# Altium schematic symbol library NOS_EEG_V2_1.SCHLIB: 12 symbols
Pins are listed as number, name and electrical type; pins without a type are passive.

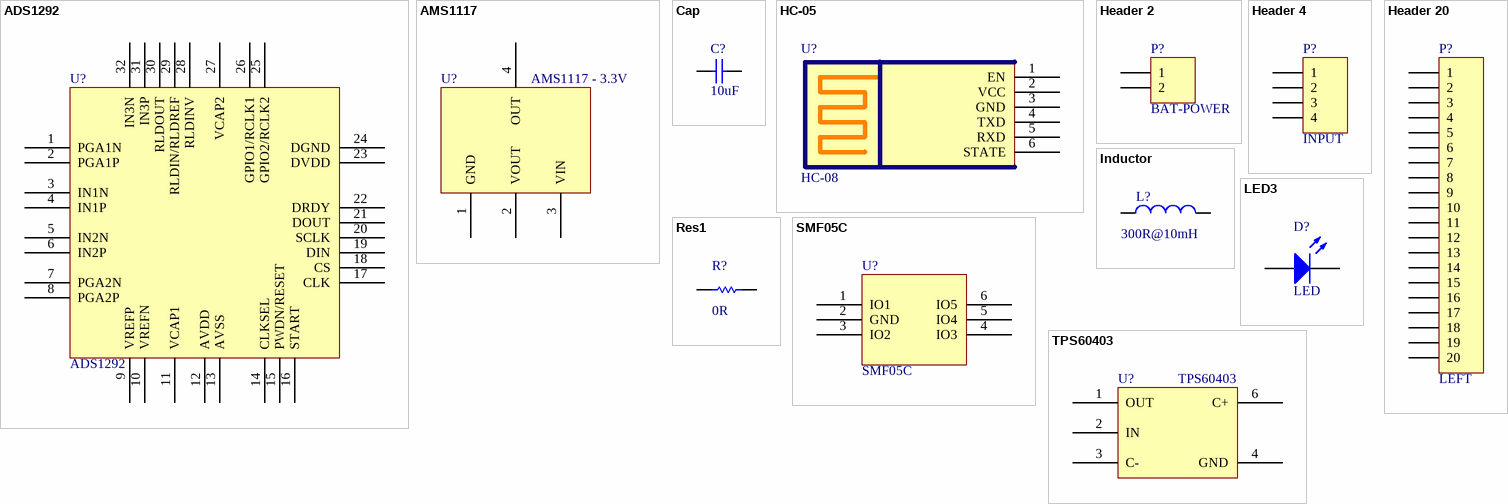
[diagram p0: symbols ADS1292 to TPS60403]

## ADS1292
designator U?
footprint PBS32_M (32-Pin Thin Plastic Quad Flat Pack 0.5 mm Pitch, IPC Low Density)
pins: 1 PGA1N, 2 PGA1P, 3 IN1N, 4 IN1P, 5 IN2N, 6 IN2P, 7 PGA2N, 8 PGA2P, 9 VREFP, 10 VREFN, 11 VCAP1, 12 AVDD, 13 AVSS, 14 CLKSEL, 15 PWDN/RESET, 16 START, 17 CLK, 18 CS, 19 DIN, 20 SCLK, 21 DOUT, 22 DRDY, 23 DVDD, 24 DGND, 25 GPIO2/RCLK2, 26 GPIO1/RCLK1, 27 VCAP2, 28 RLDINV, 29 RLDIN/RLDREF, 30 RLDOUT, 31 IN3P, 32 IN3N

## AMS1117
designator U?, comment AMS1117 - 3.3V
AMS1117
footprint SOT223
pins: 1 GND, 2 VOUT, 3 VIN, 4 OUT

## Cap
designator C?  value 10uF  (hidden comment: Cap)
Capacitor; Published: 8-Jun-2000; LatestRevisionDate: 17-Jul-2002; LatestRevisionNote: Re-released for DXP Platform.; PackageReference: RAD-0.3; Publisher: Altium Limited
simulation model CAP (Capacitor)
signal-integrity model Cap
footprint 0603
pins: 1, 2

## HC-05
designator U?, comment HC-08
bluetooth
footprint SIP6
pins: 1 EN, 2 VCC, 3 GND, 4 TXD, 5 RXD, 6 STATE

## Header 2
designator P?, comment BAT-POWER
Header, 2-Pin; LatestRevisionDate: 17-Jul-2002; LatestRevisionNote: Re-released for DXP Platform.; Publisher: Altium Limited
footprint HDR1X2 (Connector; Header; 2 Position)
signal-integrity model Connector
pins: 1, 2

## Header 4
designator P?, comment INPUT
Header, 4-Pin; LatestRevisionDate: 17-Jul-2002; LatestRevisionNote: Re-released for DXP Platform.; Publisher: Altium Limited
footprint HDR1X4 (Connector; Header; 4 Position)
signal-integrity model Connector
pins: 1, 2, 3, 4

## Header 20
designator P?, comment LEFT
Header, 20-Pin; LatestRevisionDate: 17-Jul-2002; LatestRevisionNote: Re-released for DXP Platform.; Publisher: Altium Limited
footprint HDR1X20 (Connector; Header; 20 Position)
signal-integrity model Connector
pins: 1, 2, 3, 4, 5, 6, 7, 8, 9, 10, 11, 12, 13, 14, 15, 16, 17, 18, 19, 20

## Inductor
designator L?  value 300R@10mH  (hidden comment: Inductor)
Code_IEC: 1005; Published: 8-Jun-2000; LatestRevisionDate: 17-Jul-2002; LatestRevisionNote: Re-released for DXP Platform.; PackageReference: 0402-A; Publisher: Altium Limited; Code_JEITA: 0402
simulation model INDUCTOR (Inductor)
signal-integrity model Inductor
footprint AXIAL0.4
pins: 1, 2

## LED3
designator D?, comment LED
Typical BLUE SiC LED; Published: 8-Jun-2000; LatestRevisionDate: 17-Dec-2003; LatestRevisionNote: PCB Footprint replaced.; DatasheetDocument: 16-Apr-2002; PackageDocument: 16-Apr-2002; PackageReference: 3.5X2.8X1.9; Publisher: Altium Limited
simulation model LED3 (Diode)
signal-integrity model LED
footprint 0805
pins: 1 A, 2 K

## Res1
designator R?  value 0R  (hidden comment: Res1)
Resistor; Published: 8-Jun-2000; LatestRevisionDate: 17-Jul-2002; LatestRevisionNote: Re-released for DXP Platform.; PackageReference: AXIAL-0.3; Publisher: Altium Limited
footprint AXIAL-0.3 (Resistor; 2 Leads)
simulation model RESISTOR (Resistor)
signal-integrity model Res
pins: 1, 2

## SMF05C
designator U?
footprint INF-SOT363_V (SOT23, 6-Leads, Body 2x1.25 mm, Pitch 0.65 mm)
pins: 1 IO1, 2 GND, 3 IO2, 4 IO3, 5 IO4, 6 IO5

## TPS60403
designator U?
footprint SOT23-5
pins: 1 OUT, 2 IN, 3 C-, 4 GND, 6 C+